# EAGLE library part BTDR-3 (library integrated circuits)
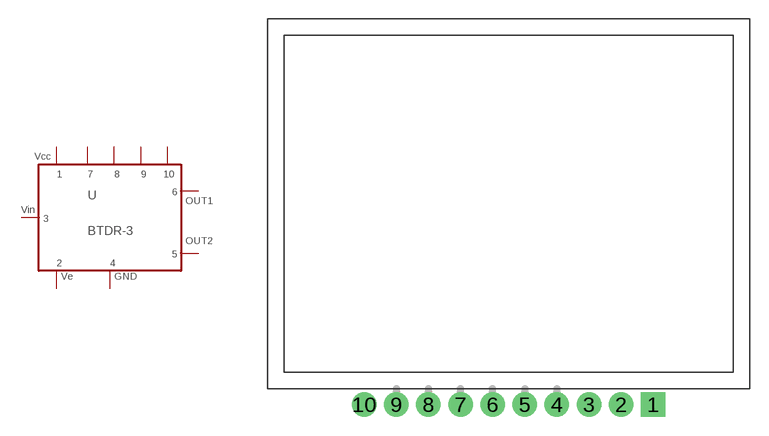
[diagram p22: symbol with the pads of BTDR-3; footprint BTDR-3]

Designator prefix -

## BTDR-3  [BTDR-3]
1  1
2  2
3  3
4  4
5  5
6  6
7  7
8  8
9  9
10  10

## Footprint BTDR-3 (pad centres in mm)
drill 1.016 pad 1.93 square: 1 11.43,-14.605
drill 1.016 pad 1.93: 2 8.89,-14.605; 3 6.35,-14.605; 4 3.81,-14.605; 5 1.27,-14.605; 6 -1.27,-14.605; 7 -3.81,-14.605; 8 -6.35,-14.605; 9 -8.89,-14.605; 10 -11.43,-14.605